# Altium schematic symbol library connectors_schematic.SchLib: 76 symbols (part 1 of 2)
Pins are listed as number, name and electrical type; pins without a type are passive.

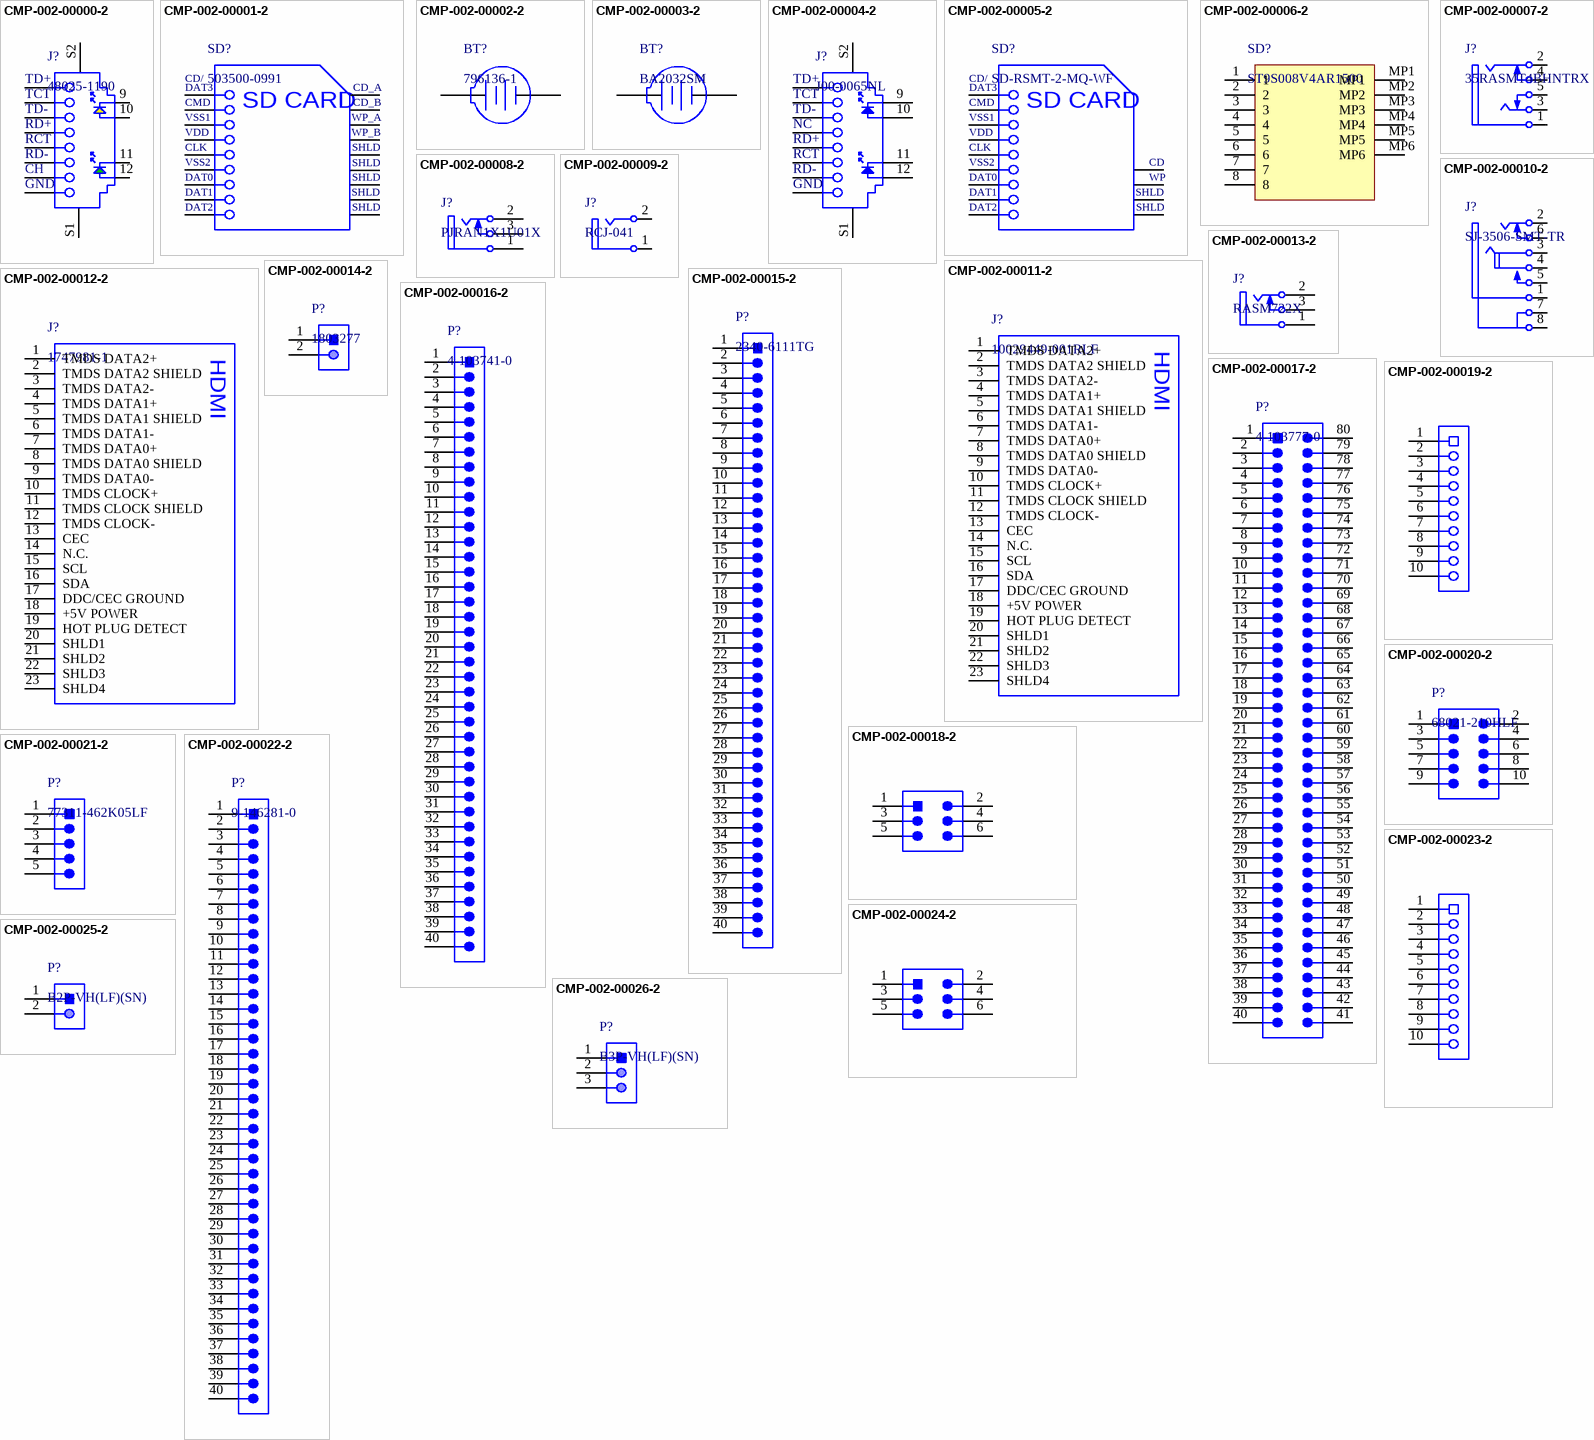
[diagram p0: symbols CMP-002-00000-2 to CMP-002-00026-2]

## CMP-002-00000-2
designator J?, comment 48025-1190
Modular Jack with Integrated Magnetics with LED, 1.5 A, -40 to 70 degC, 12-Pin THD, RoHS, Tray; Manufacturer: Molex; Shielding: Shielded; Max Voltage Rating (AC): 150V; Capacitance: -45f; Gender: Female; Current Rating: 1.5A; Packaging: Tray; Package Quantity: 1080; RoHS Compliant: True; Contact Plating: Gold; Package Description: 12-Pin Through Hole Device, Body 16.2 x 25.4 mm; Min Operating Temperature: -40°C; Manufacturer URL: http://www.molex.com/; Package Reference: 48025-1190; Max Operating Temperature: 70°C; Pins: 8; Datasheet URL: http://www.molex.com/pdm_docs/sd/480251190_sd.pdf; Datasheet Version: Rev. G, 01/2012; Housing Material: Nylon; Case/Package: 48025-1190; Lead Pitch: 1.27mm; Voltage Rating: 150V; Connector Type: Modular; Contact Material: Brass; Mounting Technology: TH
footprint MOLX-48025-1190_V (Connector, 12-Leads, Body 16.2x25.4mm)
pins: 1 TD+, 2 TCT, 3 TD-, 4 RD+, 5 RCT, 6 RD-, 7 CHASSIS, 8 GND, 9, 10, 11, 12, S1, S2
text: CH

## CMP-002-00001-2
designator SD?, comment 503500-0991
SD and Combo Memory Card Connector, Pitch 2.5 mm, 1 x 6 Position, -25 to 85 degC, RoHS, Tape and Reel; Manufacturer: Molex; Current Rating: 500mA; Connector Type: SDCard; Voltage Rating (AC): 50V; Package Reference: 503500-0991; Pins: 9; Max Operating Temperature: 85°C; Manufacturer URL: http://www.molex.com/; Case/Package: 503500-0991; Mounting Technology: SM; Contact Plating: Gold; Datasheet URL: http://www.molex.com/pdm_docs/sd/5035000991_sd.pdf; Contact Finish: Gold; Contact Material: Copper; Lead Pitch: 2.5mm; Min Operating Temperature: -25°C; Datasheet Version: Rev. B, 02/2010; Package Quantity: 500; RoHS Compliant: True; Package Description: SD Card Connector, 9 Position Surface Mount, Length 28.6 mm, Height 3.1 mm; Packaging: TapeandReel
footprint MOLX-503500-0991_V (SD Card, 9-Leads, Body 28.6x27.8mm)
pins: 1 CD/DAT3, 2 CMD, 3 VSS1, 4 VDD, 5 CLK, 6 VSS2, 7 DAT0, 8 DAT1, 9 DAT2, 10 CD_A, 11 CD_B, 12 WP_A, 13 WP_B, 14 SHLD1, 15 SHLD2, 16 SHLD3, 17 SHLD4, 18 SHLD5
text: CD/; DAT3; SD CARD; SHLD

## CMP-002-00002-2
designator BT?, comment 796136-1
Battery Connector, 1 Cell, CR2032, 2-Pin SMD, RoHS, Tape and Reel; Manufacturer: TE Connectivity; Max Voltage Rating (AC): 30V; Connector Type: BatteryHolder; Batteries: 1; Datasheet URL: http://www.te.com/commerce/DocumentDelivery/DDEController?Action=srchrtrv&DocNm=796136&DocType=Customer+Drawing&DocLang=English&DocFormat=pdf&PartCntxt=796136-1; Contact Plating: Tin; Case/Package: 796136-1; Colour: Black; Package Reference: 796136-1; Package Quantity: 400; Pins: 2; Mounting Technology: SM; RoHS Compliant: True; Datasheet Version: Dec-13; Package Description: 2-Pin Surface Mount Device, Body 32.31 x 19.05 mm; Packaging: TapeandReel; Manufacturer URL: http://www.te.com/; Contact Material: Bronze
footprint TECO-796136-1_V (SMD, 2-Leads, Body 32.31x19.05mm)
pins: 1 +, 2 -

## CMP-002-00003-2
designator BT?, comment BA2032SM
Coin Cell Holder, 1 Cell, -40 to 225 degC, 2-Pin SMD, RoHS, Tray; Manufacturer: Memory Protection Devices; Connector Type: BatteryHolder; Package Quantity: 100; Package Description: 2-Pin Surface Mount Device, Body 28 x 16 mm; Datasheet Version: Rev. H, 03/2014; RoHS Compliant: True; Case/Package: BA2032SM; Mounting Technology: SM; Min Operating Temperature: -40°C; Package Reference: BA2032SM; Max Operating Temperature: 225°C; Datasheet URL: http://www.onlinecomponents.com/datasheet/ba2032sm.aspx?p=11910700
footprint MPD-BA2032SM_V (Coin Cell Holder, 2-Leads, Body 28x16mm)
pins: 1 +, 2 -

## CMP-002-00004-2
designator J?, comment J00-0065NL
1x1 Tab-Down RJ45, Pitch 1.27 mm, 8 Position, 0 to 70 degC, 8-Pin THD, RoHS, Bulk; Manufacturer: Pulse Electronics; Capacitance: -45f; Connector Type: SDCard; Gender: Female; Shielding: Shielded; Colour: Yellow; Manufacturer URL: http://www.pulseelectronics.com/; Pins: 8; Contact Plating: Gold; Min Operating Temperature: 0°C; Contact Material: Bronze; Datasheet URL: http://productfinder.pulseeng.com/products/datasheets/J403.pdf; Packaging: Bulk; Max Operating Temperature: 70°C; Package Description: 12-Pin Through Hole Device, Body 21.59 x 16.26 mm, Pitch 1.27 mm; Lead Pitch: 2.54mm; Datasheet Version: Aug-12; Package Reference: J00-0065NL; Case/Package: J00-0065NL; Package Quantity: 25; Mounting Technology: TH; Contact Finish: Gold; RoHS Compliant: True
footprint PULS-J00-006XNL-E_V (THD, 12-Leads, Body 21.59x16.26mm, Pitch 1.27mm)
pins: 1 TD+, 2 TCT, 3 TD-, 4 NC, 5 RD+, 6 RCT, 7 RD-, 8 GND, 9, 10, 11, 12, S1, S2

## CMP-002-00005-2
designator SD?, comment SD-RSMT-2-MQ-WF
3M(TM) Card Connector SD(TM), 9 Position, 0.5 A, 3.6 V, -25 to 85 degC, 9-Pin SMD, RoHS, Tape and Reel; Max Current Rating: 500mA; Connector Type: SDCard; Voltage Rating (AC): 6V; Datasheet URL: http://datasheet.octopart.com/SD-RSMT-2-MQ-WF-3M-datasheet-11778935.pdf; Datasheet Version: Nov-06; Package Quantity: 300; Manufacturer URL: http://www.3m.com/; Case/Package: SD-RSMT-2-MQ-WF-11; Package Description: 9-Pin Surface Mount Device, Body 30.5 x 28 mm; Package Reference: SD-RSMT-2-MQ-WF-11; Packaging: TapeandReel; Min Operating Temperature: -25°C; Contact Finish: Gold; Colour: Black; Lead Pitch: 2.5mm; Mounting Technology: SM; Max Operating Temperature: 85°C; RoHS Compliant: True; Manufacturer: 3M; Contact Material: Copper; Pins: 8; Current Rating: 500mA
footprint 3M-SD-RSMT-2-MQ-WF-11_V (SMD, 9-Leads, Body 30.5x28mm)
pins: 1 CD/DAT3, 2 CMD, 3 VSS1, 4 VDD, 5 CLK, 6 VSS2, 7 DAT0, 8 DAT1, 9 DAT2, 10 CD, 11 WP, 12 SHLD1, 13 SHLD2
text: CD/; DAT3; SD CARD; SHLD

## CMP-002-00006-2
designator SD?, comment ST9S008V4AR1500
Micro SD Memory Card Connector, 8 Position, 0.5 A, 10 V, -25 to 85 degC, 8-Pin SMD, RoHS, Tape and Reel; Manufacturer: JAE Electronics; Current Rating: 500mA; Gender: Male; Voltage Rating: 10V; Connector Type: SDCard; Mating Cycles: 10000; Package Version: Rev. 2, 12/2007; Package URL: https://datasheet.ciiva.com/683/sj108062-683405.pdf; Package Reference: ST9S008V4AR1500; Min Operating Temperature: -25°C; Manufacturer URL: http://www.jaeusa.com/; Lead Pitch: 1.1mm; Datasheet URL: http://jae-connector.com/en/pdf/MB-0177-1E_ST9.pdf; RoHS Compliant: True; Pins: 8; Package Quantity: 1500; Mounting Technology: SM; Contact Finish: Gold; Packaging: TapeandReel; Case/Package: ST9S008V4AR1500; Contact Plating: Gold; Package Description: 8-Pin Surface Mount Device, Body 15.2 x 13.7 mm, Pitch 1.1 mm; Max Operating Temperature: 85°C; Datasheet Version: Dec-08; Contact Material: Copper
footprint JAE-ST9S008V4AR1500_V (SD Card, 8-Leads, Body 15.2x13.7mm, Pitch 1.1mm)
pins: 1, 2, 3, 4, 5, 6, 7, 8, MP1, MP2, MP3, MP4, MP5, MP6

## CMP-002-00007-2
designator J?, comment 35RASMT4BHNTRX
Female 3.5 mm Phone Jack, 5 Position, Height 5 mm, RoHS, Tape and Reel; Manufacturer: Switchcraft; Shielding: Unshielded; Connector Type: Audio; Max Current Rating: 3A; Voltage Rating: 250V; Datasheet Version: Rev. C, 07/2014; Case/Package: 35RASMT4BHNTRX; Gender: Female; Package Description: Female 3.5 mm Phone Jack, 5 Position, Height 5 mm; Max Operating Temperature: 85°C; Colour: Black; Manufacturer URL: http://www.switchcraft.com/; Package Reference: 35RASMT4BHNTRX; Packaging: TapeandReel; Pins: 3; Mounting Technology: SM; Min Operating Temperature: -25°C; Contact Material: Copper; Datasheet URL: http://www.switchcraft.com/Drawings/35rasmt4bhntrx_cd.pdf; Contact Plating: Silver; Current Rating: 3A; RoHS Compliant: True; Package Quantity: 800
footprint SWIT-35RASMT4BHNTRX_V (Jack, 5-Leads, Body 17x6mm)
pins: 1, 2, 3, 4, 5

## CMP-002-00008-2
designator J?, comment PJRAN1X1U01X
Female Phono Jack, 3 Position, Height 13 mm, Tail Length 4 mm, RoHS, Bulk; Manufacturer: Switchcraft; Voltage Rating: 34V; Shielding: Unshielded; Current Rating: 2A; Connector Type: Audio; Min Operating Temperature: -25°C; Contact Plating: Silver; Manufacturer URL: http://www.switchcraft.com/; Pins: 1; RoHS Compliant: True; Package Reference: PJRAN1X1U01X; Datasheet Version: Rev. A, 01/2006; Package Description: Female Phono Jack, 3 Position, Height 13 mm, Tail Length 4 mm; Gender: Female; Max Operating Temperature: 85°C; Case/Package: Metal; Datasheet URL: http://www.conxall.com/Drawings/pjran1x1u__x_series_cd.pdf; Contact Material: Copper; Colour: Black; Max Current Rating: 2A; Mounting Technology: TH; Max Voltage Rating (DC): 34V; Package Quantity: 1
footprint SWIT-PJRAN1X1U01X_V (Jack, 3-Leads, Body 19.5x10mm)
pins: 1 SLEEVE, 2 TIP, 3 SHUNT

## CMP-002-00009-2
designator J?, comment RCJ-041
Female RCJ Jack, 2 Position, Height 11.724 mm, Tail Length 4 mm, RoHS, Bulk; Manufacturer: CUI Inc; Connector Type: Audio; Shielding: Unshielded; Housing Material: Plastic; Case/Package: RCJ-041; Min Operating Temperature: -20°C; Contact Material: Brass; Package Reference: RCJ-041; Packaging: Bulk; Package Quantity: 400; Datasheet Version: Rev. B, 02/2012; Manufacturer URL: http://www.cui.com/; Package Description: Female RCJ Jack, 2 Position, Height 11.724 mm, Tail Length 4 mm; RoHS Compliant: True; Datasheet URL: http://www.cui.com/product/resource/rcj-04x.pdf; Max Operating Temperature: 85°C; Gender: Female; Mounting Technology: TH
footprint CUI-RCJ-041_V (Jack, 2-Leads, Body 19.5x10mm)
pins: 1, 2

## CMP-002-00010-2
designator J?, comment SJ-3506-SMT-TR
Female Mid Mount Audio Jack, 6 Position, Height 2.55 mm, Tail Length 2 mm, -25 to 85 degC, RoHS, Tape and Reel; Manufacturer: CUI Inc; Current Rating: 1A; Shielding: Shielded; Max Operating Temperature: 85°C; Connector Type: Audio; Housing Material: Plastic; Datasheet Version: Rev. 1.01, 11/2012; Package Description: Female Mid Mount Audio Jack, 6 Position, Height 2.55 mm, Tail Length 2 mm; Datasheet URL: http://www.cui.com/product/resource/sj-3506-smt.pdf; Gender: Female; Mounting Technology: TH; Min Operating Temperature: -25°C; Contact Material: Brass; Package Reference: SJ-3506-SMT-TR; Case/Package: SJ-3506-SMT-TR; Manufacturer URL: http://www.cui.com/; Package Quantity: 500; Packaging: TapeandReel; RoHS Compliant: True
footprint CUI-SJ-3506-SMT-TR_V (Jack, 6-Leads, Body 15.4x12.8mm)
pins: 1 S "Sleeve", 2 T "Tip", 3 R "Ring", 4 IR "Isolated ring", 5 RN "Isolated ring switch (N-O)", 6 TN "Tip switch", 7 SHLD1 "Shield", 8 SHLD2 "Shield"

## CMP-002-00011-2
designator J?, comment 10029449-001RLF
Type A HDMI Receptacle without Flange, Pitch 0.5 mm, 19 Positions, -55 to 85 degC, RoHS, Tape and Reel; Manufacturer: FCI Electronics; Voltage Rating: 40V; Current Rating: 500mA; Gender: Female; Connector Type: Display; RoHS Compliant: True; Lead Pitch: 0.5mm; Case/Package: Metal; Datasheet Version: Rev. S, 06/2012; Datasheet URL: https://datasheet.ciiva.com/851/10029449-851120.pdf; Contact Material: Copper; Pins: 19; Packaging: TapeandReel; Package Reference: 10029449-001RLF; Colour: Black; Contact Plating: Gold; Package Description: 19-Pin Surface Mount Device, Body 15 x 9 mm, Pitch 0.5 mm; Mounting Technology: SM; Package Quantity: 400; Min Operating Temperature: -55°C; Manufacturer URL: http://portal.fciconnect.com/; Max Operating Temperature: 85°C
footprint FCI-10029449-001RLF_V (SMD, 19-Leads, Body 15x9mm, Pitch 0.5mm)
pins: 1 TMDS DATA2+, 2 TMDS DATA2 SHIELD, 3 TMDS DATA2-, 4 TMDS DATA1+, 5 TMDS DATA1 SHIELD, 6 TMDS DATA1-, 7 TMDS DATA0+, 8 TMDS DATA0 SHIELD, 9 TMDS DATA0-, 10 TMDS CLOCK+, 11 TMDS CLOCK SHIELD, 12 TMDS CLOCK-, 13 CEC, 14 N.C., 15 SCL, 16 SDA, 17 DDC/CEC GROUND, 18 +5V POWER, 19 HOT PLUG DETECT, 20 SHLD1, 21 SHLD2, 22 SHLD3, 23 SHLD4
text: HDMI

## CMP-002-00012-2
designator J?, comment 1747981-1
HDMI Receptacle, Pitch 0.5 mm, 19 Position, Height 6.38 mm, RoHS, Tape and Reel; Manufacturer: TE Connectivity; Gender: Female; Connector Type: Display; Voltage Rating: 40V; Package Reference: 1747981-1; Packaging: TapeandReel; Colour: Silver; Datasheet Version: Rev. F5, 12/2015; Case/Package: Metal; Contact Plating: Gold; Package Description: HDMI Receptacle, Pitch 0.5 mm, 19 Position, Height 6.38 mm; RoHS Compliant: True; Manufacturer URL: http://www.te.com/; Contact Material: Copper; Package Quantity: 300; Pins: 19; Lead Pitch: 0.5mm; Datasheet URL: http://www.te.com/commerce/DocumentDelivery/DDEController?Action=showdoc&DocId=Customer+Drawing%7F1747981%7FF5%7Fpdf%7FEnglish%7FENG_CD_1747981_F5.pdf%7F1747981-1; Mounting Technology: SM
footprint TE-1747981-1_V (Connector, 19-Leads, Body 11.55x15mm, Pitch 0.5mm)
pins: 1 TMDS DATA2+, 2 TMDS DATA2 SHIELD, 3 TMDS DATA2-, 4 TMDS DATA1+, 5 TMDS DATA1 SHIELD, 6 TMDS DATA1-, 7 TMDS DATA0+, 8 TMDS DATA0 SHIELD, 9 TMDS DATA0-, 10 TMDS CLOCK+, 11 TMDS CLOCK SHIELD, 12 TMDS CLOCK-, 13 CEC, 14 N.C., 15 SCL, 16 SDA, 17 DDC/CEC GROUND, 18 +5V POWER, 19 HOT PLUG DETECT, 20 SHLD1, 21 SHLD2, 22 SHLD3, 23 SHLD4
text: HDMI

## CMP-002-00013-2
designator J?, comment RASM722X
Power Jack, 5 A, 250 V, 3-Pin SMD, RoHS, Bulk; Manufacturer: Switchcraft; Connector Type: DCJack; Package Reference: RASM722X; Mounting Technology: SM; Manufacturer URL: http://www.switchcraft.com/; Datasheet URL: http://www.switchcraft.com/Drawings/rasm732x_cd.pdf; RoHS Compliant: Unknown; Datasheet Version: Rev. A, 09/2005; Package Description: 3-Pin Surface Mount Device, Body 14.5 x 9 mm; Case/Package: RASM722X
footprint SWIT-RASM722X_V (SMD, 3-Leads, Body 14.5x9mm)
pins: 1 SLEEVE, 2 TIP, 3 SHUNT

## CMP-002-00014-2
designator P?, comment 1803277
Male Header, Pitch 3.81 mm, 1 x 2 Position, Height 7.25 mm, Tail Length 3.4 mm, RoHS, Bulk; Manufacturer: Phoenix Contact; Voltage Rating: 160V; Current Rating: 8A; Rows: 1; Mounting Technology: TH; Contact Plating: Tin; Case/Package: 1803277; Gender: Male; Diameter: 7.25mm; Datasheet Version: Feb-14; Colour: Green; Pins: 2; Lead Pitch: 0.15inch; Connector Type: Header; Package Quantity: 50; Max Current Rating: 8A; Manufacturer URL: http://www.phoenixcontact.com/; Packaging: Bulk; RoHS Compliant: True; Datasheet URL: https://datasheet.ciiva.com/16096/1803277-16096845.pdf; Package Reference: 1803277; Package Description: Male Header, Pitch 3.81 mm, 1 x 2 Position, Height 7.25 mm, Tail Length 3.4 mm
footprint PHOE-1803277_V (CONN, Body 9.2x9.01mm, Pitch 3.81mm)
pins: 1, 2

## CMP-002-00015-2
designator P?, comment 2340-6111TG
Male Header, Pitch 2.54 mm, 1 x 40 Position, Height 8.636 mm, Tail Length 3.05 mm, -55 to 105 degC, RoHS, Bulk; Manufacturer: 3M; Max Current Rating: 3A; Rows: 1; Max Operating Temperature: 105°C; RoHS Compliant: True; Manufacturer URL: http://www.3m.com/; Package Reference: 2340-6111TG; Package Quantity: 200; Min Operating Temperature: -55°C; Package Description: Male Header, Pitch 2.54 mm, 1 x 40 Position, Height 8.636 mm, Tail Length 3.05 mm; Gender: Male; Datasheet URL: https://datasheet.ciiva.com/5161/ts0766-242217-5161112.pdf; Packaging: Bulk; Lead Pitch: 0.1inch; Mounting Technology: TH; Case/Package: 2340-6111TG; Connector Type: Header; Datasheet Version: Aug-08; Pins: 40; Current Rating: 3A; Contact Finish: Gold; Contact Plating: Gold; Colour: Black; Contact Material: Copper
footprint 3M-2340-6111TG_V (THD, 40-Leads, Body 101.6x2.54mm, Pitch 2.54mm)
pins: 1, 2, 3, 4, 5, 6, 7, 8, 9, 10, 11, 12, 13, 14, 15, 16, 17, 18, 19, 20, 21, 22, 23, 24, 25, 26, 27, 28, 29, 30, 31, 32, 33, 34, 35, 36, 37, 38, 39, 40

## CMP-002-00016-2
designator P?, comment 4-103741-0
Male Header, Pitch 2.54 mm, 1 x 40 Position, Height 8.128 mm, Tail Length 2.286 mm, RoHS, Bulk; Manufacturer: TE Connectivity; Max Contact Resistance: 20mohm; Rows: 1; Current Rating: 3A; Max Current Rating: 1A; Contact Finish: Lead; Colour: Black; Package Reference: 4-103741-0; Contact Gender: Male; Packaging: Bulk; Contact Material: Bronze; Datasheet URL: http://sigma.octopart.com/12533693/technical_drawing/Agastat-4-103741-0.pdf; Package Description: Male Header, Pitch 2.54 mm, 1 x 40 Position, Height 8.128 mm, Tail Length 2.286 mm; Mounting Technology: TH; RoHS Compliant: True; Pins: 40; Gender: Male; Package Quantity: 100; Max Operating Temperature: 105°C; Min Operating Temperature: -65°C; Manufacturer URL: http://www.te.com/; Case/Package: 4-103741-0; Lead Pitch: 0.1inch; Contact Plating: Tin; Datasheet Version: Mar-11; Connector Type: Header
footprint TECO-4-103741-0_V (THD, 40-Leads, Body 101.194x2.337mm, Pitch 2.54mm)
pins: 1, 2, 3, 4, 5, 6, 7, 8, 9, 10, 11, 12, 13, 14, 15, 16, 17, 18, 19, 20, 21, 22, 23, 24, 25, 26, 27, 28, 29, 30, 31, 32, 33, 34, 35, 36, 37, 38, 39, 40

## CMP-002-00017-2
designator P?, comment 4-103777-0
Male Header, Pitch 2.54 mm, 2 x 40 Position, Height 8.13 mm, Tail Length 2.29 mm, -65 to 105 degC, RoHS, Bulk; Manufacturer: TE Connectivity; Rows: 2; Current Rating: 3A; Contact Material: Bronze; Contact Plating: Tin; Case/Package: 4-103777-0; Colour: Black; Packaging: Bulk; Datasheet URL: http://www.onlinecomponents.com/datasheet/41037770.aspx?p=10364676; Package Description: Male Header, Pitch 2.54 mm, 2 x 40 Position, Height 8.13 mm, Tail Length 2.29 mm; Datasheet Version: Rev. 6-04, 03/2006; Max Operating Temperature: 105°C; Contact Finish: Lead; RoHS Compliant: True; Package URL: http://www.mouser.com/ds/2/418/NG_CD_103777_F2-615203.pdf; Connector Type: Header; Lead Pitch: 2.54mm; Min Operating Temperature: -65°C; Gender: Male; Mounting Technology: TH; Pins: 80; Manufacturer URL: http://www.te.com/; Contact Gender: Male; Package Quantity: 50; Package Reference: 4-103777-0
footprint TECO-4-103777-0_V (THD, 80-Leads, Body 101.19x4.88mm, Pitch 2.54mm)
pins: 1, 2, 3, 4, 5, 6, 7, 8, 9, 10, 11, 12, 13, 14, 15, 16, 17, 18, 19, 20, 21, 22, 23, 24, 25, 26, 27, 28, 29, 30, 31, 32, 33, 34, 35, 36, 37, 38, 39, 40, 41, 42, 43, 44, 45, 46, 47, 48, 49, 50, 51, 52, 53, 54, 55, 56, 57, 58, 59, 60, 61, 62, 63, 64, 65, 66, 67, 68, 69, 70, 71, 72, 73, 74, 75, 76, 77, 78, 79, 80

## CMP-002-00018-2
designator P?, comment 5-146130-2
Male Header, Pitch 2.54 mm, 2 x 3 Position, Height 8.13 mm, -65 to 125 degC, RoHS, Tube; Manufacturer: TE Connectivity; Max Operating Temperature: 125°C; Datasheet Version: Oct-15; Package Description: Male Header, Pitch 2.54 mm, 2 x 3 Position, Height 8.13 mm; Case/Package: 5-146130-2; Datasheet URL: http://www.te.com/commerce/DocumentDelivery/DDEController?Action=showdoc&DocId=Customer+Drawing%7F146130%7FM%7Fpdf%7FEnglish%7FENG_CD_146130_M.pdf%7F5-146130-2; Manufacturer URL: http://www.te.com/; Connector Type: Header; Gender: Male; Mounting Technology: SM; Min Operating Temperature: -65°C; RoHS Compliant: Unknown; Package Reference: 5-146130-2
footprint TECO-5-146130-2_V (Header, 6-Leads, Body 7.21x4.88mm, Pitch 2.54mm)
pins: 1, 2, 3, 4, 5, 6

## CMP-002-00019-2
designator J?, comment 5-534237-8
Female Receptacle, Pitch 2.54 mm, 1 x 10 Position, Height 8.64 mm, Tail Length 2.92 mm, -65 to 105 degC, RoHS, Tube; Manufacturer: TE Connectivity; Max Contact Resistance: 12mohm; Connector Type: Header; Current Rating: 2A; Voltage Rating: 750V; Rows: 1; Datasheet Version: Apr-13; Contact Plating: Gold; Min Operating Temperature: -65°C; Manufacturer URL: http://www.te.com/; Mounting Technology: TH; Contact Material: Bronze; RoHS Compliant: True; Packaging: Rail/Tube; Contact Finish: Gold; Pins: 10; Case/Package: 5-534237-8; Max Operating Temperature: 105°C; Lead Pitch: 2.54mm; Gender: Female; Package Quantity: 22; Colour: Black; Package Description: Female Receptacle, Pitch 2.54 mm, 1 x 10 Position, Height 8.64 mm, Tail Length 2.92 mm; Package Reference: 5-534237-8; Datasheet URL: http://www.te.com/commerce/DocumentDelivery/DDEController?Action=showdoc&DocId=Customer+Drawing%7F534237%7FR5%7Fpdf%7FEnglish%7FENG_CD_534237_R5.pdf%7F5-534237-8
footprint TECO-5-534237-8_V (Receptacle, 10-Leads, Body 25.4x3.56mm, Pitch 2.54mm)
pins: 1, 2, 3, 4, 5, 6, 7, 8, 9, 10

## CMP-002-00020-2
designator P?, comment 68021-210HLF
Male Header, Pitch 2.54 mm, 2 x 5 Position, Height 4.83 mm, Tail Length 3.05 mm, Bulk; Manufacturer: FCI Electronics; Datasheet URL: http://portal.fciconnect.com/Comergent//fci/drawing/68020.pdf; Case/Package: 68021-210HLF-10; Manufacturer URL: http://portal.fciconnect.com/; Connector Type: Header; Mounting Technology: TH; Datasheet Version: Rev. BM, 04/2015; Package Description: Male Header, Pitch 2.54 mm, 2 x 5 Position, Height 4.83 mm, Tail Length 3.05 mm; Gender: Male; RoHS Compliant: Unknown; Package Reference: 68021-210HLF-10
footprint FCI-68021-210HLF-10_V (THD, 10-Leads, Body 12.7x2.54mm, Pitch 2.54mm)
pins: 1, 2, 3, 4, 5, 6, 7, 8, 9, 10

## CMP-002-00021-2
designator P?, comment 77311-462K05LF
Male Header, Pitch 2.54 mm, 1 x 5 Position, Height 16.24 mm, Tail Length 3.05 mm, -65 to 125 degC, RoHS, Tape and Reel; Manufacturer: FCI Electronics; Connector Type: Header; Manufacturer URL: http://portal.fciconnect.com/; Datasheet URL: http://portal.fciconnect.com/Comergent//fci/drawing/77311.pdf; Gender: Male; Case/Package: 77311-5; Package Reference: 77311-5; Datasheet Version: Rev. CK, 07/2016; Package Description: Male Header, Pitch 2.54 mm, 1 x 5 Position, Height 16.24 mm, Tail Length 3.05 mm; RoHS Compliant: Unknown; Mounting Technology: TH
footprint FCI-77311-5_V (THD, 5-Leads, Body 12.7x2.4mm, Pitch 2.54mm)
pins: 1 DTR, 2 RXI, 3 TXO, 4 VCC, 5 CTS

## CMP-002-00022-2
designator P?, comment 9-146281-0
Male Header, Pitch 2.54 mm, 1 x 40 Position, Height 8.21 mm, Tail Length 3.05 mm, -65 to 105 degC, RoHS, Bulk; Manufacturer: TE Connectivity; Current Rating: 3A; Rows: 1; Datasheet URL: http://www.te.com/commerce/DocumentDelivery/DDEController?Action=showdoc&DocId=Customer+Drawing%7F146281%7FG%7Fpdf%7FEnglish%7FENG_CD_146281_G_146281_1_c.dwg.pdf%7F9-146281-0; Contact Plating: Gold; Packaging: Tray; Lead Pitch: 2.54mm; Max Operating Temperature: 105°C; Manufacturer URL: http://www.te.com/; Connector Type: Header; Package Reference: 9-146281-0; Gender: Male; Package Description: Male Header, Pitch 2.54 mm, 1 x 40 Position, Height 8.21 mm, Tail Length 3.05 mm; Package Quantity: 100; Datasheet Version: Rev. G, 07/2014; Contact Gender: Male; Colour: Black; RoHS Compliant: True; Min Operating Temperature: -65°C; Mounting Technology: TH; Contact Material: Bronze; Package URL: http://www.te.com/commerce/DocumentDelivery/DDEController?Action=showdoc&DocId=Catalog+Section%7F1307819_SECTION_5%7F0908%7Fpdf%7FEnglish%7FENG_CS_1307819_SECTION_5_0908.pdf%7F9-146281-0; Case/Package: 9-146281-0; Contact Finish: Gold; Pins: 40
footprint TECO-9-146281-0_V (Header, 40-Leads, Body 101.2x2.34mm, Pitch 2.54mm)
pins: 1, 2, 3, 4, 5, 6, 7, 8, 9, 10, 11, 12, 13, 14, 15, 16, 17, 18, 19, 20, 21, 22, 23, 24, 25, 26, 27, 28, 29, 30, 31, 32, 33, 34, 35, 36, 37, 38, 39, 40

## CMP-002-00023-2
designator J?, comment 929850-01-10-RA
Female Header, Pitch 2.54 mm, 1 x 10 Position, Height 8.26 mm, Tail Length 3.18 mm, -40 to 105 degC, RoHS, Bulk; Manufacturer: 3M; Current Rating: 1A; Datasheet Version: Jun-13; Contact Finish: Gold; Package Description: Female Header, Pitch 2.54 mm, 1 x 10 Position, Height 8.26 mm, Tail Length 3.18 mm; Mounting Technology: TH; Max Operating Temperature: 105°C; Pins: 10; Lead Pitch: 2.54mm; RoHS Compliant: True; Contact Plating: Gold; Min Operating Temperature: -40°C; Colour: Black; Contact Gender: Female; Package Reference: 929850-01-10-RA; Gender: Female; Case/Package: 929850-01-10-RA; Packaging: Bulk; Package Quantity: 300; Datasheet URL: http://multimedia.3m.com/mws/media/22500O/3mtm-boardmount-skt-100-100x-100strt-sldr-tails-ts0815.pdf; Connector Type: Header; Contact Material: Copper; Manufacturer URL: http://www.3m.com/
footprint 3M-929850-01-10-RA_V (THD, 10-Leads, Body 25.4x2.54mm, Pitch 2.54mm)
pins: 1, 2, 3, 4, 5, 6, 7, 8, 9, 10

## CMP-002-00024-2
designator P?, comment 95278-101A06LF
Male Header, Pitch 2.54 mm, 2 x 3 Position, Height 14.4 mm, RoHS, Tape and Reel; Manufacturer: Amphenol; Package Reference: 95278-101A06LF; Package Description: Male Header, Pitch 2.54 mm, 2 x 3 Position, Height 14.4 mm; RoHS Compliant: Unknown; Case/Package: 95278-101A06LF; Connector Type: Header; Mounting Technology: SM; Gender: Male; Datasheet URL: http://portal.fciconnect.com/Comergent//fci/drawing/95278.pdf; Datasheet Version: Rev. AC, 03/2016
footprint AMPM-95278-101A06LF_V (SMD, 6-Leads, Body 7.26x4.83mm, Pitch 2.54mm)
pins: 1, 2, 3, 4, 5, 6

## CMP-002-00025-2
designator P?, comment B2P-VH(LF)(SN)
Male Header, Pitch 3.96 mm, 1 x 2 Position, Height 10.9 mm, Tail Length 3.7 mm, -25 to 85 degC, RoHS, Bulk; Manufacturer: JST; Case/Package: B2P-VH(LF)(SN); Connector Type: Header; Mounting Technology: TH; Package Reference: B2P-VH(LF)(SN); Package Description: Male Header, Pitch 3.96 mm, 1 x 2 Position, Height 10.9 mm, Tail Length 3.7 mm; Max Operating Temperature: 85°C; Manufacturer URL: http://www.jst.com/home2.html; RoHS Compliant: Unknown; Datasheet Version: May-16; Gender: Male; Min Operating Temperature: -25°C; Datasheet URL: http://www.jst-mfg.com/product/pdf/eng/eVH.pdf
footprint JST-B2P-VH(LF)(SN)_V (THD, 2-Leads, Body 8.5x7.86mm, Pitch 3.96mm)
pins: 1, 2

## CMP-002-00026-2
designator P?, comment B3P-VH(LF)(SN)
Male Header, Pitch 3.96 mm, 1 x 3 Position, Height 10.9 mm, Tail Length 3.7 mm, -25 to 85 degC, RoHS, Bulk; Manufacturer: JST; Case/Package: B3P-VH(LF)(SN); Connector Type: Header; Datasheet Version: May-16; Mounting Technology: TH; Package Description: Male Header, Pitch 3.96 mm, 1 x 3 Position, Height 10.9 mm, Tail Length 3.7 mm; Gender: Male; Manufacturer URL: http://www.jst.com/home2.html; Package Reference: B3P-VH(LF)(SN); Datasheet URL: http://www.jst-mfg.com/product/pdf/eng/eVH.pdf; Min Operating Temperature: -25°C; Max Operating Temperature: 85°C; RoHS Compliant: Unknown
footprint JST-B3P-VH(LF)(SN)-3_V (Connector, 3-Leads, Body 8.5x11.82mm, Pitch 3.96mm)
pins: 1, 2, 3

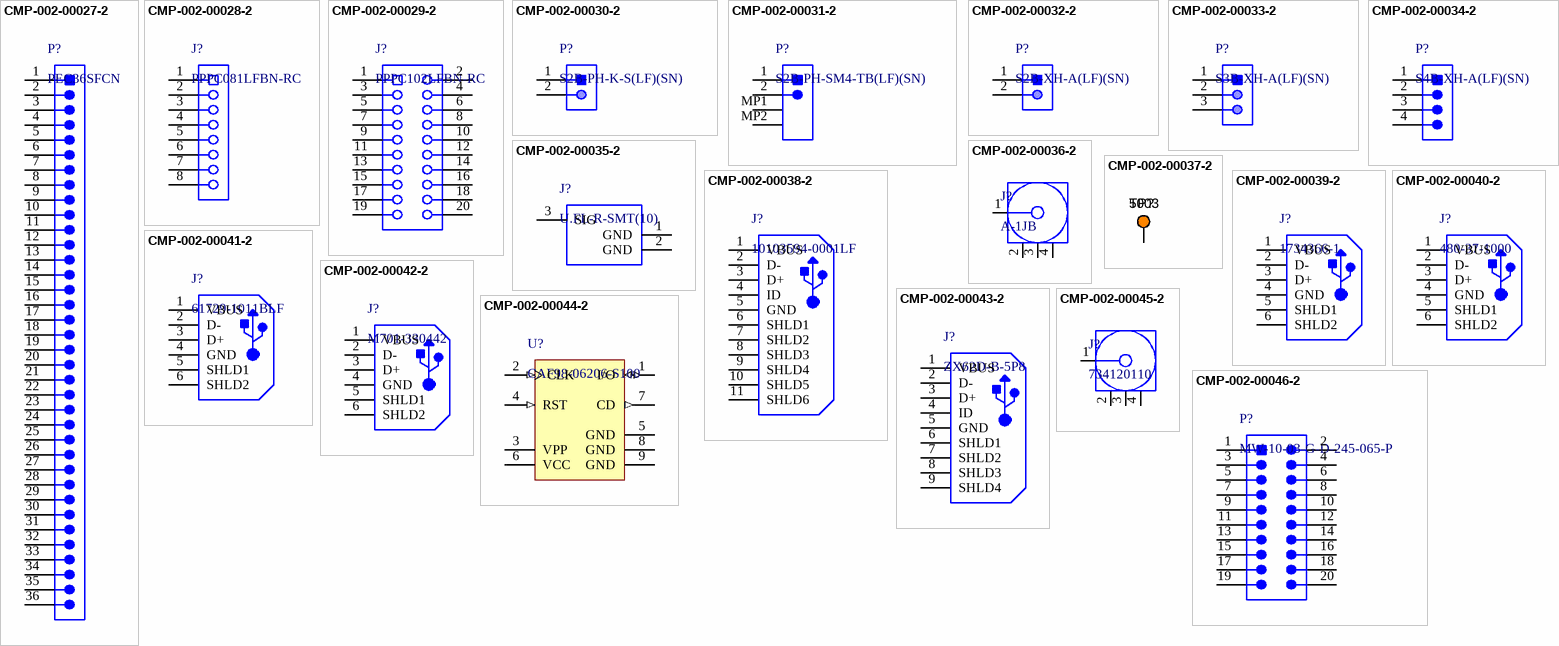
[diagram p1: symbols CMP-002-00027-2 to CMP-002-00046-2]

## CMP-002-00027-2
designator P?, comment PEC36SFCN
Male Header, Pitch 2.54 mm, 1 x 36 Position, Height 10.62 mm, Tail Length 8.13 mm, -65 to 125 degC, RoHS, Bulk; Manufacturer: Sullins; Contact Finish: Tin; Datasheet Version: Apr-13; Pins: 36; Datasheet URL: http://disti-assets.s3.amazonaws.com/testco-inc/files/datasheets/17515.pdf; RoHS Compliant: True; Case/Package: PEC36SFCN; Package Reference: PEC36SFCN; Colour: Black; Gender: Male; Connector Type: Header; Package Quantity: 1; Packaging: Bulk; Mounting Technology: TH; Package Description: Male Header, Pitch 2.54 mm, 1 x 36 Position, Height 10.62 mm, Tail Length 8.13 mm; Package URL: http://www.sullinscorp.com/drawings/77____C___S___N-OMIT,_M500,_STRAIGHT,_C10436.pdf; Lead Pitch: 0.1inch
footprint SLIN-PEC36SFCN_V (THD, 36-Leads, Body 91.44x2.54mm, Pitch 2.54mm)
pins: 1, 2, 3, 4, 5, 6, 7, 8, 9, 10, 11, 12, 13, 14, 15, 16, 17, 18, 19, 20, 21, 22, 23, 24, 25, 26, 27, 28, 29, 30, 31, 32, 33, 34, 35, 36

## CMP-002-00028-2
designator J?, comment PPPC081LFBN-RC
Female Header, Pitch 2.54 mm, 1 x 8 Position, Height 8.5 mm, Tail Length 3.2 mm, -40 to 105 degC, RoHS, Bulk; Manufacturer: Sullins; Package Reference: PPPC081LFBN-RC; Connector Type: Header; Datasheet Version: Jan-15; Package Description: Female Header, Pitch 2.54 mm, 1 x 8 Position, Height 8.5 mm, Tail Length 3.2 mm; RoHS Compliant: Unknown; Max Operating Temperature: 105°C; Case/Package: PPPC081LFBN-RC; Min Operating Temperature: -40°C; Datasheet URL: http://sullinscorp.com/catalogs/101_PAGE114-115_.100_FEMALE_HDR.pdf; Gender: Female; Mounting Technology: TH
footprint SLIN-PPPC081LFBN-RC_V (THD, 8-Leads, Body 20.82x2.54mm, Pitch 2.54mm)
pins: 1, 2, 3, 4, 5, 6, 7, 8

## CMP-002-00029-2
designator J?, comment PPPC102LFBN-RC
Female Header, Pitch 2.54 mm, 2 x 10 Position, Height 8.75 mm, Tail Length 3.2 mm, -40 to 105 degC, RoHS, Bulk; Manufacturer: Sullins; Mounting Technology: TH; RoHS Compliant: Unknown; Gender: Female; Case/Package: PPPC102LFBN-RC; Min Operating Temperature: -40°C; Datasheet Version: Rev. D, 10/2007; Max Operating Temperature: 105°C; Package Description: Female Header, Pitch 2.54 mm, 2 x 10 Position, Height 8.75 mm, Tail Length 3.2 mm; Package Reference: PPPC102LFBN-RC; Connector Type: Header; Datasheet URL: http://datasheet.octopart.com/PPPC102LFBN-RC-Sullins-datasheet-8327184.pdf
footprint SLIN-PPPC102LFBN-RC_V (THD, 20-Leads, Body 25.9x5mm, Pitch 2.54mm)
pins: 1, 2, 3, 4, 5, 6, 7, 8, 9, 10, 11, 12, 13, 14, 15, 16, 17, 18, 19, 20

## CMP-002-00030-2
designator P?, comment S2B-PH-K-S(LF)(SN)
Male Header, Pitch 2 mm, 1 x 2 Position, Height 4.8 mm, Tail Length 3.4 mm, -25 to 85 degC, RoHS, Bulk; Manufacturer: Japan Solderless Terminals; Package Reference: S2B-PH-K-S; Case/Package: S2B-PH-K-S; Datasheet URL: http://www.jst-mfg.com/product/pdf/eng/ePH.pdf; RoHS Compliant: Unknown; Datasheet Version: Dec-12; Gender: Male; Min Operating Temperature: -25°C; Max Operating Temperature: 85°C; Package Description: Male Header, Pitch 2 mm, 1 x 2 Position, Height 4.8 mm, Tail Length 3.4 mm; Connector Type: Header; Mounting Technology: SM
footprint JST-S2B-PH-K-S_V (THD, 2-Leads, Body 7.6x5.9mm, Pitch 2mm)
pins: 1, 2

## CMP-002-00031-2
designator P?, comment S2B-PH-SM4-TB(LF)(SN)
Male Header, Pitch 2 mm, 1 x 2 Position, Height 5.5 mm, -25 to 85 degC, RoHS, Tape and Reel; Manufacturer: JST; Package Reference: S2B-PH-SM4-TB(LF)(SN)-2; Mounting Technology: SM; Manufacturer URL: http://www.jst.com/home2.html; Package Description: Male Header, Pitch 2 mm, 1 x 2 Position, Height 5.5 mm; Max Operating Temperature: 85°C; Case/Package: S2B-PH-SM4-TB(LF)(SN)-2; Datasheet URL: http://www.jst-mfg.com/product/pdf/eng/ePH.pdf; Connector Type: Header; RoHS Compliant: Unknown; Datasheet Version: Dec-12; Gender: Male; Min Operating Temperature: -25°C
footprint JST- S2B-PH-SM4-TB(LF)(SN)-2_V (SMD, 2-Leads, Body 7.9x7.6mm, Pitch 2mm)
pins: 1, 2, MP1, MP2

## CMP-002-00032-2
designator P?, comment S2B-XH-A(LF)(SN)
Male Header, Pitch 2.5 mm, 1 x 2 Position, Height 6.1 mm, Tail Length 3.4 mm, -25 to 85 degC, RoHS, Bulk; Manufacturer: JST; Case/Package: S2B-XH-A(LF)(SN); Package Description: XH Series Disconnectable Crimp Style Connector, Pitch 2.5 mm, 1 x 2 Position, Height 6.1 mm, Tail Length 3.4 mm; Manufacturer URL: http://www.jst.com/home2.html; Datasheet URL: http://www.jst-mfg.com/product/pdf/eng/eXH.pdf; Connector Type: Header; Package Reference: S2B-XH-A(LF)(SN); Mounting Technology: TH; Max Operating Temperature: 85°C; Min Operating Temperature: -25°C; Datasheet Version: May-16; Gender: Male; RoHS Compliant: Unknown
footprint JST-S2B-XH-A(LF)(SN)_V (Header, 2-Leads, Body 7.4x11.5mm, Pitch 2.5mm)
pins: 1, 2

## CMP-002-00033-2
designator P?, comment S3B-XH-A(LF)(SN)
Male Header, Pitch 2.5 mm, 1 x 3 Position, Height 6.1 mm, Tail Length 3.4 mm, -25 to 85 degC, RoHS, Bulk; Manufacturer: JST; Package Description: Male Header, Pitch 2.5 mm, 1 x 3 Position, Height 6.1 mm, Tail Length 3.4 mm; Manufacturer URL: http://www.jst.com/home2.html; Datasheet URL: http://www.jst-mfg.com/product/pdf/eng/eXH.pdf; RoHS Compliant: Unknown; Connector Type: Header; Package Reference: S3B-XH-A(LF)(SN); Gender: Male; Case/Package: S3B-XH-A(LF)(SN); Mounting Technology: TH; Max Operating Temperature: 85°C; Min Operating Temperature: -25°C; Datasheet Version: May-16
footprint JST-S3B-XH-A(LF)(SN)_V (Header, 3-Leads, Body 9.9x11.5mm, Pitch 2.5mm)
pins: 1, 2, 3

## CMP-002-00034-2
designator P?, comment S4B-XH-A(LF)(SN)
Male Header, Pitch 2.5 mm, 1 x 4 Position, Height 6.1 mm, Tail Length 3.4 mm, -25 to 85 degC, RoHS, Bulk; Manufacturer: JST; Manufacturer URL: http://www.jst.com/home2.html; RoHS Compliant: Unknown; Gender: Male; Min Operating Temperature: -25°C; Datasheet URL: http://www.jst-mfg.com/product/pdf/eng/eXH.pdf; Case/Package: S4B-XH-A(LF)(SN); Datasheet Version: May-16; Mounting Technology: TH; Package Reference: S4B-XH-A(LF)(SN); Max Operating Temperature: 85°C; Package Description: XH Series Disconnectable Crimp Style Connector, Pitch 2.5 mm, 1 x 4 Position, Height 6.1 mm, Tail Length 3.4 mm; Connector Type: Header
footprint JST-S4B-XH-A(LF)(SN)_V (Header, 4-Leads, Body 12.4x11.5mm, Pitch 2.5mm)
pins: 1, 2, 3, 4

## CMP-002-00035-2
designator J?, comment U.FL-R-SMT(10)
Ultra Small Surface Mount Coaxial Connector, 50 Ohm, -40 to 90 degC, 3-Pin SMD, RoHS, Tape and Reel; Manufacturer: Hirose Electric; Impedance: 50Ohm; Connector Type: RF&Coax; RoHS Compliant: True; Datasheet Version: Aug-16; Contact Material: Brass; Packaging: TapeandReel; Mounting Technology: SM; Package Description: 3-Pin Surface Mount Device, Body 2.6 x 2.6 mm; Max Operating Temperature: 90°C; Datasheet URL: https://www.hirose.com/product/en/download_file/key_name/U.FL/category/Catalog/doc_file_id/31697/?file_category_id=4&item_id=15&is_series=1; Package Reference: U.FL-R-SMT; Contact Plating: Gold; Min Operating Temperature: -40°C; Fastening Type: Snap; Package Quantity: 2500; Resistance: 50Ohm; Manufacturer URL: https://www.hirose.com; Case/Package: U.FL-R-SMT
footprint HRS-U.FL-R-SMT_V (SMD, 3-Leads, Body 2.6x2.6mm)
pins: 1 GND (power), 2 GND (power), 3 SIG

## CMP-002-00036-2
designator J?, comment A-1JB
AMC PCB Jack, 0 to 60 GHz, 60 V, -40 to 90 degC, 4-Pin SMD, RoHS, Tape and Reel; Manufacturer: Amphenol; Connector Type: TerminalBlock; Mating Cycles: 30; Impedance: 50Ohm; Frequency: 6Hz; Min Operating Temperature: -40°C; Contact Material: Brass; Max Operating Temperature: 155°C; Datasheet URL: http://drawings.amphenolrf.com/Customer_Outline/CA-1JB.pdf; RoHS Compliant: True; Contact Plating: Gold; Package Reference: A-1JB; Packaging: TapeandReel; Case/Package: A-1JB; Fastening Type: Snap; Mounting Technology: SM; Datasheet Version: Rev. K, 05/2016; Package Quantity: 2500; Package Description: 4-Pin Surface Mount Device, Body 2.6 x 2.6 mm
footprint AMPH-A-1JB_V (SMD, 4-Leads, Body 2.6x2.6mm)
pins: 1, 2, 3, 4

## CMP-002-00037-2
designator TP?, comment 5003
Test Point, Orange, Height 4.6 mm, Tail Length 3 mm, 1-Pin THD, RoHS; Manufacturer: Keystone; Colour: Orange; Packaging: Bulk; Package Description: 1-Pin Through Hole Device, Dia 2.54 mm; Pins: 1; Package Reference: 5003; Datasheet Version: Jun-15; Case/Package: 5003; Mounting Technology: TH; Connector Type: TestPoint; Diameter: 2.54mm; Contact Material: Bronze; Datasheet URL: http://keyelco.com/userAssets/file/M65p56.pdf; Manufacturer URL: http://www.keyelco.com/; Package Quantity: 10; Contact Plating: Tin; RoHS Compliant: True
footprint KSTN-5003 (Test Point, Through Hole, Dia 2.54mm)
pins: 1

## CMP-002-00038-2
designator J?, comment 10103594-0001LF
Micro USB 2.0 B Receptacle, 5 Position, Height 3.24 mm, -55 to 85 degC, RoHS, Tape and Reel; Manufacturer: FCI Electronics; Gender: Female; Current Rating: 1.8A; Voltage Rating: 100V; Min Operating Temperature: -55°C; Package Reference: FCI-10103594-0001LF; Max Operating Temperature: 85°C; Lead Pitch: 0.65mm; Case/Package: FCI-10103594-0001LF; Package Quantity: 1500; Connector Type: USB; Mounting Technology: SM; Datasheet Version: Rev. A, 06/2010; Contact Material: Copper; Package Description: 5-Pin Surface Mount Device, Body 8.04 x 5.62 mm; Contact Plating: Gold; Packaging: TapeandReel; Datasheet URL: http://portal.fciconnect.com/Comergent//fci/drawing/10103594.pdf; Pins: 5; RoHS Compliant: True; Manufacturer URL: http://portal.fciconnect.com/
footprint FCI-10103594-0001LF_V (SMD, 5-Leads, Body 8.04x5.62mm, Pitch 0.65 mm)
pins: 1 VBUS, 2 D-, 3 D+, 4 ID, 5 GND, 6 SHLD1, 7 SHLD2, 8 SHLD3, 9 SHLD4, 10 SHLD5, 11 SHLD6

## CMP-002-00039-2
designator J?, comment 1734366-1
Recept Assy Type A USB, 4 Position, Height 15 mm, -55 to 85 degC, RoHS, Tray; Manufacturer: TE Connectivity; Voltage Rating: 30V; Gender: Female; Current Rating: 1A; Manufacturer URL: http://www.te.com/; Packaging: Tray; Package Quantity: 24000; Pins: 4; Package Description: 6-Pin Through Hole Device, Length 15 mm, Height 15 mm, Tail Length 2.8 mm; Colour: Black; Max Operating Temperature: 50°C; Datasheet Version: Rev. C3, 03/2016; Contact Plating: Gold; Case/Package: 1734366-1; RoHS Compliant: True; Min Operating Temperature: 0°C; Voltage Rating (AC): 30V; Connector Type: USB; Package Reference: 1734366-1; Contact Material: Copper; Max Voltage Rating (AC): 30V; Datasheet URL: http://www.te.com/commerce/DocumentDelivery/DDEController?Action=showdoc&DocId=Customer+Drawing%7F1734366%7FC3%7Fpdf%7FEnglish%7FENG_CD_1734366_C3.pdf%7F1734366-1; Mounting Technology: TH
footprint TE-1734366-1_V (Connector, 6-Leads, Body 7.62x15mm)
pins: 1 VBUS, 2 D-, 3 D+, 4 GND, 5 SHLD1, 6 SHLD2

## CMP-002-00040-2
designator J?, comment 480-37-1000
Universal Serial Bus (USB) Shielded I/O Plug, Type A, Right Angle Connector, 4 Position, Height 4.6 mm, -20 to 85 degC, RoHS, Tray; Manufacturer: Molex; Gender: Male; Voltage Rating (AC): 150V; Max Current Rating: 1.5A; Package Description: 4-Pin Surface Mount Device, Body 12 x 18.8 mm; Max Operating Temperature: 85°C; Mounting Technology: SM; Contact Material: Brass; Case/Package: 480-37-1000; Connector Type: USB; Contact Plating: Gold; RoHS Compliant: True; Colour: Black; Datasheet URL: http://www.molex.com/pdm_docs/sd/480371000_sd.pdf; Manufacturer URL: http://www.molex.com/; Max Voltage Rating (AC): 150V; Datasheet Version: Rev. D, 06/2004; Current Rating: 1.5A; Min Operating Temperature: -20°C; Pins: 4; Package Reference: 480-37-1000; Packaging: Tray
footprint MOLX-480-37-1000_V (CONN, 4-Leads, Body 12x18.8mm)
pins: 1 VBUS, 2 D-, 3 D+, 4 GND, 5 SHLD1, 6 SHLD2

## CMP-002-00041-2
designator J?, comment 61729-1011BLF
USB Receptacle B Type, Right Angle, 4 Position, Height 11.5 mm,-40 to 85 degC, RoHS, Tube; Manufacturer: FCI Electronics; Current Rating: 1.5A; Gender: Female; Contact Material: Copper; Contact Plating: Nickel; Colour: Black; Max Operating Temperature: 40°C; Datasheet URL: http://portal.fciconnect.com/Comergent/fci/drawing/61729.pdf; Pins: 4; Lead Pitch: 2.5mm; Mounting Technology: TH; Packaging: Rail/Tube; Package Description: 4-Pin Through Hole Device, Body 16 x 12.2 mm; RoHS Compliant: True; Case/Package: 61729-1011BLF; Package Quantity: 44; Manufacturer URL: http://portal.fciconnect.com/; Package Reference: 61729-1011BLF; Datasheet Version: Rev. W, 05/2014; Connector Type: USB; Min Operating Temperature: 0°C
footprint FCI-61729-1011BLF_V (THD, 4-Leads, Body 16x12.2mm)
pins: 1 VBUS, 2 D-, 3 D+, 4 GND, 5 SHLD1, 6 SHLD2

## CMP-002-00042-2
designator J?, comment M701-330442
Single USB 2.0, Receptacle Connecter, B Type, Through Hole, 4 Position, Height 16.25 mm, -55 to 85 degC, RoHS, Tray; Manufacturer: Harwin; Current Rating: 1.5A; Gender: Female; Datasheet Version: Oct-15; Package Reference: M701-330442; Packaging: Tray; Pins: 4; Colour: White; Contact Plating: Gold; Contact Material: Bronze; RoHS Compliant: True; Case/Package: M701-330442; Mounting Technology: TH; Lead Pitch: 2.5mm; Datasheet URL: https://cdn.harwin.com/pdfs/M701-330442.pdf; Connector Type: USB; Min Operating Temperature: -55°C; Package Description: USB Connecter, 4 Position Through Hole, Length 12.04 mm, Height 16.25 mm, Tail Length 3.1 mm; Package Quantity: 100; Max Operating Temperature: 85°C
footprint HRWN-M701-330442_V (USB, 4-Leads, Body 12.04x10.6mm, Pitch 2.5mm)
pins: 1 VBUS, 2 D-, 3 D+, 4 GND, 5 SHLD1, 6 SHLD2

## CMP-002-00043-2
designator J?, comment ZX62D-B-5P8
Right Angle Receptacle Connector, Micro USB, 5 Position, Height 2.65 mm, -30 to 85 degC, RoHS, Tape and Reel; Manufacturer: Hirose Electric; Gender: Male; Rows: 1; Current Rating: 1A; Max Operating Temperature: 85°C; Package Quantity: 2000; Connector Type: USB; Datasheet Version: Aug-16; Contact Material: Copper; Packaging: TapeandReel; Package URL: https://www.hirose.com/product/en/download_file/key_name/ZX62D-B-5P8/category/Drawing%20(2D)/doc_file_id/36535/?file_category_id=6&item_id=02420034000&is_series=; Min Operating Temperature: -30°C; Case/Package: ZX62D-B-5P8; Package Reference: ZX62D-B-5P8; Pins: 5; Mounting Technology: SM; Package Description: USB Connector, 5 Position Surface Mount, Length 8 mm, Height 2.65 mm; Housing Material: Plastic; Datasheet URL: https://www.hirose.com/product/en/download_file/key_name/ZX62D-B-5P8/category/Catalog/doc_file_id/31704/?file_category_id=5&item_id=02420034000&is_series=; Contact Plating: Gold; Lead Pitch: 0.65mm; RoHS Compliant: True; Manufacturer URL: https://www.hirose.com
footprint HIRO-ZX62D-B-5P8_V (Micro-USB Connector, 9-Leads, Body 7.5x5.6mm, Pitch 0.65mm)
pins: 1 VBUS, 2 D-, 3 D+, 4 ID, 5 GND, 6 SHLD1, 7 SHLD2, 8 SHLD3, 9 SHLD4

## CMP-002-00044-2
designator U?, comment CAF98-06206-S100
SIM Card Socket, 50 V, 0.5 A, 9-Pin SMD, Halogen Free; Manufacturer: LCN; Current: 0.5A; Gender: Female; Voltage: 50V; Pins: 9; Datasheet URL: http://www.linkconn.com/Content/Linkconn/Uploads/file/20140308/CAF98-06206-S100-cus-G.pdf; Datasheet Version: Rev. G, 06/2013; Mounting Technology: SM; Case/Package: CAF98-06206-S100; Manufacturer URL: http://www.linkconn.com/index; Halogen Compliant: True; Connector Type: Socket; Package Reference: CAF98-06206-S100; Package Description: 9-Pin Surface Mount Device, Body 19.1 x 26.6 mm
footprint LCN-CAF98-06206-S100_V (SMD, 9-Leads, Body 26.6x19.1mm)
pins: 1 I/O (io), 2 CLK (in), 3 VPP (power), 4 RST (in), 5 GND (power), 6 VCC (power), 7 CD (out), 8 GND (power), 9 GND (power)

## CMP-002-00045-2
designator J?, comment 734120110
Microcoaxial RF, 60 V, 50 Ohm, -40 to 90 degC, 4-Pin SMD, RoHS, Tape and Reel; Manufacturer: Molex; Voltage: 60V; Connector Type: RF&Coax; Gender: Male; Case/Package: 0734120110; Max Operating Temperature: 90°C; Package Reference: 734120110; Pins: 4; Datasheet URL: http://www.molex.com/pdm_docs/sd/734120110_sd.pdf; RoHS Compliant: True; Datasheet Version: 42186; Mounting Technology: SM; Packaging: TapeandReel; Min Operating Temperature: -40°C; Manufacturer URL: http://www.molex.com/; Package Description: 4-Pin Surface Mount Device, Body 2.6 x 2.6 mm
footprint MOLX-73412-0110_V (MCRF, 4-Leads, Body 2.6x2.6mm)
pins: 1, 2, 3, 4

## CMP-002-00046-2
designator P?, comment MW-10-03-G-D-245-065-P
Flexible Micro Board Stacker, Pitch 1 mm, 2 x 10 Position, Height 9.4 mm, -55 to 125 degC, RoHS, Tape and Reel; Manufacturer: Samtec; Connector Type: Header; Gender: Male; Min Operating Temperature: -55°C; Pins: 20; Datasheet URL: http://suddendocs.samtec.com/prints/mw-xx-03-x-d-xxx-xxx-xx-mkt.pdf; Package Reference: MW-10-03-G-D-245-065-P; Case/Package: MW-10-03-G-D-245-065-P; Package Description: Flexible Micro Board Stacker, Pitch 1 mm, 2 x 10 Position, Height 9.4 mm; Packaging: TapeandReel; Max Operating Temperature: 125°C; RoHS Compliant: True; Datasheet Version: 34759; Manufacturer URL: https://www.samtec.com/; Mounting Technology: SM
footprint SMTC-MW-10-03-G-D-245-065-P_V (CONN, 20-Leads, Body 3.18x10mm, Pitch 1mm)
pins: 1, 2, 3, 4, 5, 6, 7, 8, 9, 10, 11, 12, 13, 14, 15, 16, 17, 18, 19, 20

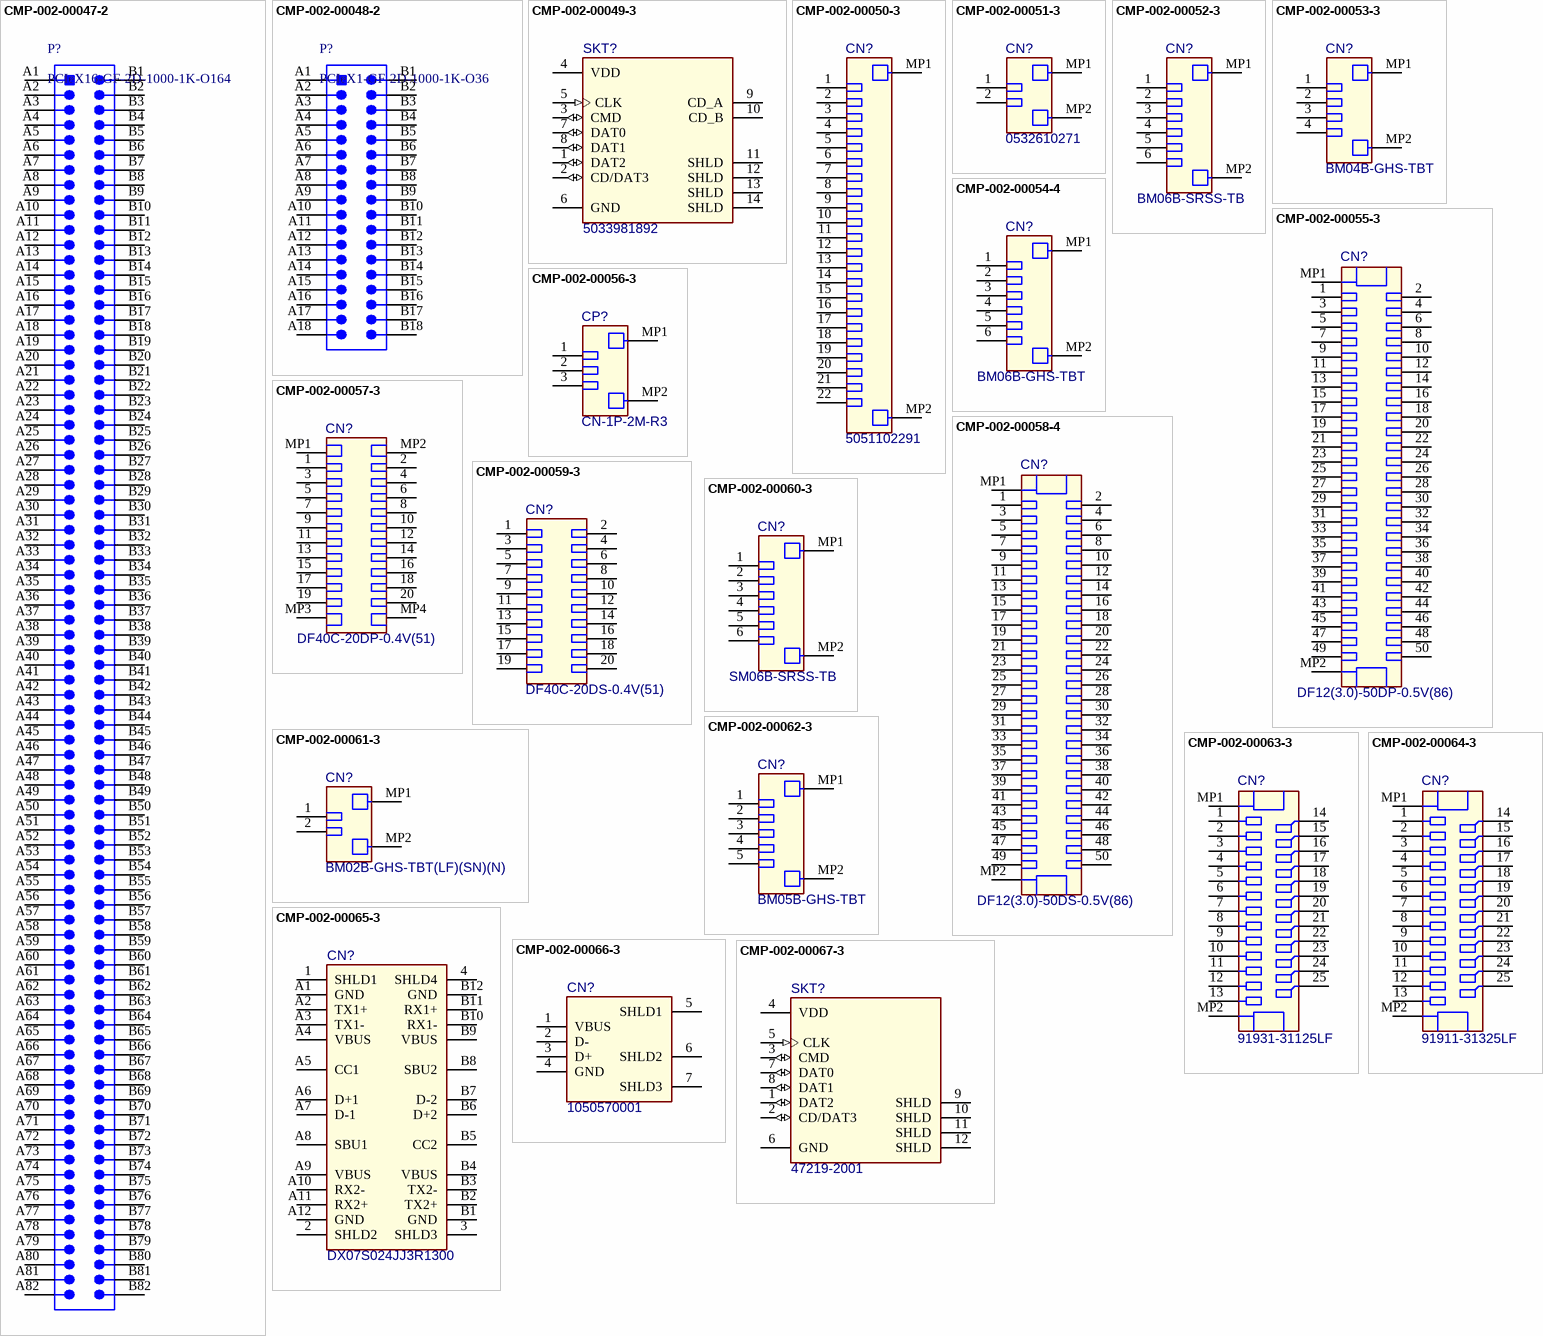
[diagram p2: symbols CMP-002-00047-2 to CMP-002-00067-3]

## CMP-002-00047-2
designator P?, comment PCIeX16-GF-2D-1000-1K-O164
Golden Finger, PCIeX16, Dual, Opposite, Pitch 1mm, 164-Position; Connector Type: EdgeConnector; Gender: Male; Package Reference: PCIeX16-GF-2D-1000-1K-O164; Package Description: Edge Connector, Golden Finger, Pitch 1 mm, 2 x 82 Position; Mounting Technology: SM; Case/Package: PCIeX16-GF-2D-1000-1K-O164; Pins: 164
footprint PCIeX16-GF-2D-1000-1K-O164 (Golden finger, PCIeX16, Dual, Opposite, Pitch 1mm, 164-Position)
pins: A1, A2, A3, A4, A5, A6, A7, A8, A9, A10, A11, A12, A13, A14, A15, A16, A17, A18, A19, A20, A21, A22, A23, A24, A25, A26, A27, A28, A29, A30, A31, A32, A33, A34, A35, A36, A37, A38, A39, A40, A41, A42, A43, A44, A45, A46, A47, A48, A49, A50, A51, A52, A53, A54, A55, A56, A57, A58, A59, A60, A61, A62, A63, A64, A65, A66, A67, A68, A69, A70, A71, A72, A73, A74, A75, A76, A77, A78, A79, A80, A81, A82, B1, B2, B3, B4, B5, B6, B7, B8, B9, B10, B11, B12, B13, B14, B15, B16, B17, B18, B19, B20, B21, B22, B23, B24, B25, B26, B27, B28, B29, B30, B31, B32, B33, B34, B35, B36, B37, B38, B39, B40, B41, B42, B43, B44, B45, B46, B47, B48, B49, B50, B51, B52, B53, B54, B55, B56, B57, B58, B59, B60, B61, B62, B63, B64, B65, B66, B67, B68, B69, B70, B71, B72, B73, B74, B75, B76, B77, B78, B79, B80, B81, B82

## CMP-002-00048-2
designator P?, comment PCIeX1-GF-2D-1000-1K-O36
Golden Finger, PCIeX1, Dual, Opposite, Pitch 1mm, 36-Position; Gender: Male; Connector Type: EdgeConnector; Package Description: Edge Connector, Golden Finger, Pitch 1 mm, 2 x 18 Position; Case/Package: PCIeX1-GF-2D-1000-1K-O36; Pins: 36; Mounting Technology: SM; Package Reference: PCIeX1-GF-2D-1000-1K-O36
footprint PCIeX1-GF-2D-1000-1K-O36 (Golden finger, PCIeX1, Dual, Opposite, Pitch 1mm, 36-Position)
pins: A1, A2, A3, A4, A5, A6, A7, A8, A9, A10, A11, A12, A13, A14, A15, A16, A17, A18, B1, B2, B3, B4, B5, B6, B7, B8, B9, B10, B11, B12, B13, B14, B15, B16, B17, B18

## CMP-002-00049-3
designator SKT?, comment 5033981892
Micro SD Card Connector, Pitch 1.1 mm, 8 Position, Height 1.4 mm, -25 to 85 degC, RoHS, Tape and Reel; Pins: 14
footprint MOLX-5033981892_V (CONN, 8-Leads, Body 14.05x13.2mm, Pitch 1.1mm)
footprint MOLX-5033981892_V (CONN, 8-Leads, Body 14.05x13.2mm, Pitch 1.1mm)
pins: 1 DAT2 (io), 2 CD/DAT3 (io), 3 CMD (io), 4 VDD (power), 5 CLK (in), 6 GND, 7 DAT0 (io), 8 DAT1 (io), 9 CD_A, 10 CD_B, 11 SHLD, 12 SHLD, 13 SHLD, 14 SHLD

## CMP-002-00050-3
designator CN?, comment 5051102291
Right Angle FFC/FPC Connector, 50 V, 0.5 A, -40 to 105 degC, RoHS, Tape and Reel; Pins: 24
footprint MOLX-5051102291_V (SMD, 22-Leads, Body 5.3x16.5mm, Pitch 0.5mm)
footprint MOLX-5051102291_V (SMD, 22-Leads, Body 5.3x16.5mm, Pitch 0.5mm)
pins: 1, 2, 3, 4, 5, 6, 7, 8, 9, 10, 11, 12, 13, 14, 15, 16, 17, 18, 19, 20, 21, 22, MP1, MP2

## CMP-002-00051-3
designator CN?, comment 0532610271
Header, Pitch 1.25 mm, 1 x 2 Position, Height 3.6 mm, -40 to 85 degC; Connector Type: WiretoBoard; Gender: HDR; Pins: 4
footprint JST-BM02B-GHS-TBT_V (Connector, 2-Leads, Body 5.75x4.25mm, Pitch 1.25mm)
footprint MOLX-532610271_V (SMD, 2-Leads, Body 7.65x4.2mm, Pitch 1.25mm)
pins: 1, 2, MP1, MP2

## CMP-002-00052-3
designator CN?, comment BM06B-SRSS-TB
Header, Pitch 1 mm, 1 x 6 Position, Height 4.25 mm, -25 to 85 degC; Connector Type: Header,Shrouded; Pins: 8
footprint JST-SM06B-SRSS-TB_V (SMD, 6-Leads, Body 8x4.25mm, Pitch 1mm)
footprint JST-BM06B-SRSS-TB_V (SMD, 6-Leads, Body 2.9x8mm, Pitch 1mm)
pins: 1, 2, 3, 4, 5, 6, MP1, MP2

## CMP-002-00053-3
designator CN?, comment BM04B-GHS-TBT
Header, Pitch 1.25 mm, 1 x 4 Position, Height 4.05 mm, -25 to 85 degC; Pins: 6
footprint JST-BM04B-GHS-TBT_V (Connector, 4-Leads, Body 8.25x4.25mm, Pitch 1.25mm)
footprint JST-BM04B-GHS-TBT_V (Connector, 4-Leads, Body 8.25x4.25mm, Pitch 1.25mm)
pins: 1, 2, 3, 4, MP1, MP2

## CMP-002-00054-4
designator CN?, comment BM06B-GHS-TBT
Header, Pitch 1.25 mm, 1 x 6 Position, Height 4.05 mm, -25 to 85 degC; Pins: 8
footprint JST-SM06B-SRSS-TB_V (SMD, 6-Leads, Body 8x4.25mm, Pitch 1mm)
footprint JST-BM06B-GHS-TBT_V (Connector, 6-Leads, Body 10.75x4.25mm, Pitch 1.25mm)
pins: 1, 2, 3, 4, 5, 6, MP1, MP2

## CMP-002-00055-3
designator CN?, comment DF12(3.0)-50DP-0.5V(86)
Plug Connector, 50 V, 0.3 A, -45 to 125 degC, RoHS, Tape and Reel; Pins: 52
footprint HIRO-DF12(3.0)-50DS-0.5V_V (SMD, 50-Leads, Body 14.6x3.6mm, Pitch 0.5mm)
footprint HIRO-DF12(3.0)-50DP-0.5V_V (SMD, 50-Leads, Body 14.7x3.8mm, Pitch 0.5mm)
pins: 1, 2, 3, 4, 5, 6, 7, 8, 9, 10, 11, 12, 13, 14, 15, 16, 17, 18, 19, 20, 21, 22, 23, 24, 25, 26, 27, 28, 29, 30, 31, 32, 33, 34, 35, 36, 37, 38, 39, 40, 41, 42, 43, 44, 45, 46, 47, 48, 49, 50, MP1, MP2

## CMP-002-00056-3
designator CP?, comment CN-1P-2M-R3
AMASS 500V 15A   0.8 mOhm; Pins: 5
footprint MR30PW-FB-Footprint-1
footprint MR30PW-FB-Footprint-1
pins: 1, 2, 3, MP1, MP2

## CMP-002-00057-3
designator CN?, comment DF40C-20DP-0.4V(51)
Plug Connector, 30 V, 0.3 A, -35 to 85 degC, RoHS, Tape and Reel; Pins: 24
footprint HIRO-DF40C-20DP-0.4V(51)_V (CONN, 20-Lead, Body 5.52x1.85mm, Pitch 0.4mm)
footprint HIRO-DF40C-20DP-0.4V(51)_V (CONN, 20-Lead, Body 5.52x1.85mm, Pitch 0.4mm)
pins: 1, 2, 3, 4, 5, 6, 7, 8, 9, 10, 11, 12, 13, 14, 15, 16, 17, 18, 19, 20, MP1 MP, MP2 MP, MP3 MP, MP4 MP

## CMP-002-00058-4
designator CN?, comment DF12(3.0)-50DS-0.5V(86)
Receptacle Connector, 50 V, 0.3 A, -45 to 125 degC, RoHS, Tape and Reel; Pins: 52
footprint HIRO-DF12(3.0)-50DS-0.5V_V (SMD, 50-Leads, Body 14.6x3.6mm, Pitch 0.5mm)
footprint HIRO-DF12(3.0)-50DS-0.5V_V (SMD, 50-Leads, Body 14.6x3.6mm, Pitch 0.5mm)
pins: 1, 2, 3, 4, 5, 6, 7, 8, 9, 10, 11, 12, 13, 14, 15, 16, 17, 18, 19, 20, 21, 22, 23, 24, 25, 26, 27, 28, 29, 30, 31, 32, 33, 34, 35, 36, 37, 38, 39, 40, 41, 42, 43, 44, 45, 46, 47, 48, 49, 50, MP1, MP2

## CMP-002-00059-3
designator CN?, comment DF40C-20DS-0.4V(51)
Receptacle Connector, 30 V, 0.3 A, -35 to 85 degC, RoHS, Tape and Reel; Connector Type: Receptacle,CenterStripContacts; Pins: 20
footprint HIRO-DF40C-20DS-0.4V(51)_V (CONN, 20-Lead, Body 6.6x2.88mm, Pitch 0.4mm)
footprint HIRO-DF40C-20DS-0.4V(51)_V (CONN, 20-Lead, Body 6.6x2.88mm, Pitch 0.4mm)
pins: 1, 2, 3, 4, 5, 6, 7, 8, 9, 10, 11, 12, 13, 14, 15, 16, 17, 18, 19, 20

## CMP-002-00060-3
designator CN?, comment SM06B-SRSS-TB
Male Header, Pitch 1 mm, 1 x 6 Position, Height 2.95 mm, -25 to 85 degC, RoHS, Tape and Reel; Pins: 8; Case/Package: Male Header, Pitch 1 mm, 1 X 6 Position, Height 2.9 mm; Mounting Technology: SurfaceMount
footprint JST-SM06B-SRSS-TB_V (SMD, 6-Leads, Body 8x4.25mm, Pitch 1mm)
footprint JST-SM06B-SRSS-TB_V (SMD, 6-Leads, Body 8x4.25mm, Pitch 1mm)
pins: 1, 2, 3, 4, 5, 6, MP1, MP2

## CMP-002-00061-3
designator CN?, comment BM02B-GHS-TBT(LF)(SN)(N)
Disconnectable Crimp Style Connector, Pitch 1.25 mm, 1 x 2 Position, Height 4.05 mm, -25 to 85 degC, RoHS, Tape and Reel; Connector Type: Header,Shrouded; Mounting Technology: SurfaceMount; Case/Package: Disconnectable Crimp Style Connector, Pitch 1.25 mm, 1 x 2 Position, Height 4.05 mm; Pins: 4
footprint JST-BM02B-GHS-TBT_V (Connector, 2-Leads, Body 5.75x4.25mm, Pitch 1.25mm)
footprint JST-BM02B-GHS-TBT_V (Connector, 2-Leads, Body 5.75x4.25mm, Pitch 1.25mm)
pins: 1, 2, MP1, MP2